# Altium footprint library SOD_SOT_SMx.PcbLib: 30 footprints (part 1 of 2)
Each footprint in its own frame and in the unit in brackets; x right, y up, seen from the top. Pads: shape width x height; smd on the part's side, far side on the other; paste and mask are expansions set on the pad; w line width, h text height; cw(c..) or ccw(c..) is an arc to the next point about the centre after c.
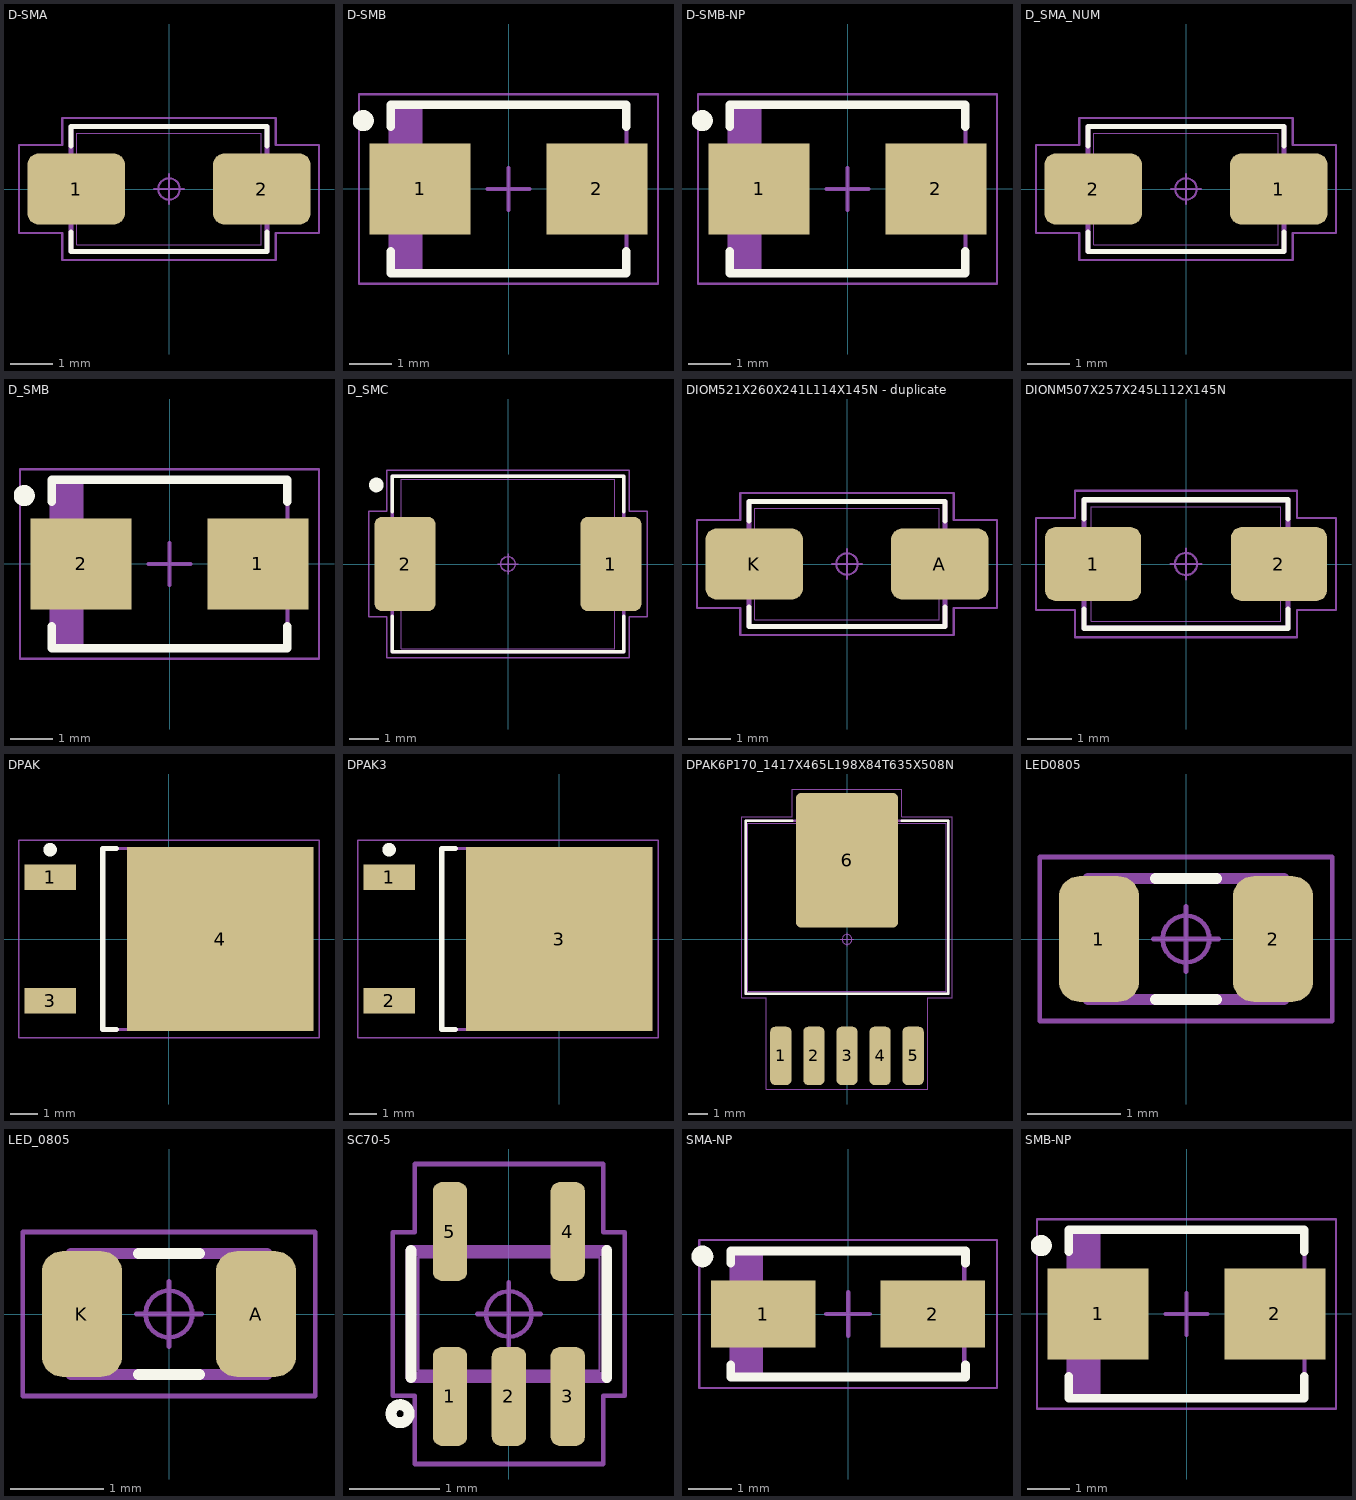
[diagram p0: the footprints below, top view; thin cyan lines are the x and y axes]

## D-SMA [mm] "Diode, Molded Body; 4.315 mm L X 2.605 mm W X 2.41 mm H body"
height 2.41
pads (2):
  rrect30% 2.27x1.65 smd: 1(-2.165,0) 2(2.165,0)
Top Overlay:
  lines w0.12: -2.29,-1.005 -2.29,-1.46 2.29,-1.46 2.29,-1.005 ; -2.29,1.005 -2.29,1.46 2.29,1.46 2.29,1.005
Mechanical 11:
  lines w0.12: -2.29,-1.46 2.29,-1.46 2.29,1.46 -2.29,1.46 -2.29,-1.46
Mechanical 12:
  lines w0.025: -2.605,-0.725 -2.605,0.725 -1.465,0.725 -1.465,-0.725 -2.605,-0.725 ; -2.157,-1.302 2.157,-1.302 2.157,1.302 -2.157,1.302 -2.157,-1.302 ; 1.465,-0.725 2.605,-0.725 2.605,0.725 1.465,0.725 1.465,-0.725
Mechanical 15:
  circle w0.05: c0,0 r0.25
  lines w0.05: -0.35,0 0.35,0 ; 0,-0.35 0,0.35 ; -3.5,-1.025 -2.49,-1.025 -2.49,-1.66 2.49,-1.66 2.49,-1.025 3.5,-1.025 3.5,1.025 2.49,1.025 2.49,1.66 -2.49,1.66 -2.49,1.025 -3.5,1.025 -3.5,-1.025
3D body "DIOM521X260X241L114X145.STEP": height 2.41, standoff 0, extent -2.605,-1.302 2.605,1.302

## D-SMB [mm] "Molded Diode, 2-Leads, Body 5,35x3,63mm, IPC Medium Density"
height 2.65
pads (2):
  rect 2.4x2.15 smd: 1(-2.1,0) 2(2.1,0)
Top Overlay:
  circle w0.25: c-3.45,1.625 r0.125
  lines w0.2: -2.8,-1.475 -2.8,-2 2.8,-2 2.8,-1.475 ; -2.8,1.475 -2.8,2 2.8,2 2.8,1.475
Mechanical 13:
  rectangle: -2.8,-1.975 -2.047,1.975
  lines w0.1: -2.8,-1.975 2.8,-1.975 2.8,1.975 -2.8,1.975 -2.8,-1.975
Mechanical 15:
  lines w0.05: -3.55,-2.25 3.55,-2.25 3.55,2.25 -3.55,2.25 -3.55,-2.25
  lines w0.1: -0.5,0 0.5,0 ; 0,-0.5 0,0.5
3D body "D_SMB.step": height 2.15, standoff 0, extent -2.65,-1.775 2.65,1.775

## D-SMB-NP [mm] "Molded Diode, 2-Leads, Body 5,35x3,63mm, IPC Medium Density"
height 2.65
pads (2):
  rect 2.4x2.15 smd: 1(-2.1,0) 2(2.1,0)
Top Overlay:
  circle w0.25: c-3.45,1.625 r0.125
  lines w0.2: -2.8,-1.475 -2.8,-2 2.8,-2 2.8,-1.475 ; -2.8,1.475 -2.8,2 2.8,2 2.8,1.475
Mechanical 13:
  rectangle: -2.8,-1.975 -2.047,1.975
  lines w0.1: -2.8,-1.975 2.8,-1.975 2.8,1.975 -2.8,1.975 -2.8,-1.975
Mechanical 15:
  lines w0.05: -3.55,-2.25 3.55,-2.25 3.55,2.25 -3.55,2.25 -3.55,-2.25
  lines w0.1: -0.5,0 0.5,0 ; 0,-0.5 0,0.5
3D body "DIOM5336X26N.step": height 2.65, standoff 0, extent -3.02,-1.975 3.02,1.975

## D_SMA_NUM [mm]
pads (2):
  rrect30% 2.27x1.65 smd: 1(2.165,0) 2(-2.165,0)
Top Overlay:
  lines w0.12: -2.29,-1.005 -2.29,-1.46 2.29,-1.46 2.29,-1.005 ; -2.29,1.005 -2.29,1.46 2.29,1.46 2.29,1.005
Mechanical 11:
  lines w0.12: -2.29,-1.46 2.29,-1.46 2.29,1.46 -2.29,1.46 -2.29,-1.46
Mechanical 12:
  lines w0.025: -2.605,-0.725 -2.605,0.725 -1.465,0.725 -1.465,-0.725 -2.605,-0.725 ; -2.157,-1.302 2.157,-1.302 2.157,1.302 -2.157,1.302 -2.157,-1.302 ; 1.465,-0.725 2.605,-0.725 2.605,0.725 1.465,0.725 1.465,-0.725
Mechanical 15:
  circle w0.05: c0,0 r0.25
  lines w0.05: -0.35,0 0.35,0 ; 0,-0.35 0,0.35 ; -3.5,-1.025 -2.49,-1.025 -2.49,-1.66 2.49,-1.66 2.49,-1.025 3.5,-1.025 3.5,1.025 2.49,1.025 2.49,1.66 -2.49,1.66 -2.49,1.025 -3.5,1.025 -3.5,-1.025
3D body "DIOM521X260X241L114X145.STEP": height 2.41, standoff 0, extent -2.605,-1.302 2.605,1.302

## D_SMB [mm] "Molded Diode, 2-Leads, Body 5,35x3,63mm, IPC Medium Density"
height 2.65
pads (2):
  rect 2.4x2.15 smd: 1(2.1,0) 2(-2.1,0)
Top Overlay:
  circle w0.25: c-3.45,1.625 r0.125
  lines w0.2: -2.8,-1.475 -2.8,-2 2.8,-2 2.8,-1.475 ; -2.8,1.475 -2.8,2 2.8,2 2.8,1.475
Mechanical 13:
  rectangle: -2.8,-1.975 -2.047,1.975
  lines w0.1: -2.8,-1.975 -2.8,1.975 2.8,1.975 2.8,-1.975 -2.8,-1.975
Mechanical 15:
  lines w0.05: -3.55,-2.25 -3.55,2.25 3.55,2.25 3.55,-2.25 -3.55,-2.25
  lines w0.1: -0.5,0 0.5,0 ; 0,-0.5 0,0.5
3D body "D_SMB.step": height 2.15, standoff 0, extent -2.65,-1.775 2.65,1.775

## D_SMC [mm] "Diode, Molded Body; 7.30 mm L X 5.80 mm W X 2.50 mm H body"
height 2.5
pads (2):
  rrect24% 2.09x3.22 smd: 1(3.515,0) 2(-3.515,0)
Top Overlay:
  circle w0.25: c-4.5,2.7 r0.125
  lines w0.12: -3.95,-1.79 -3.95,-3 3.95,-3 3.95,-1.79 ; -3.95,1.79 -3.95,3 3.95,3 3.95,1.79
Mechanical 11:
  lines w0.12: -3.95,-3 -3.95,3 3.95,3 3.95,-3 -3.95,-3
Mechanical 12:
  lines w0.025: -3.95,-1.5 -2.75,-1.5 -2.75,1.5 -3.95,1.5 -3.95,-1.5 ; -3.65,-2.9 -3.65,2.9 3.65,2.9 3.65,-2.9 -3.65,-2.9 ; 2.75,-1.5 2.75,1.5 3.95,1.5 3.95,-1.5 2.75,-1.5
Mechanical 15:
  circle w0.05: c0,0 r0.25
  lines w0.05: -0.35,0 0.35,0 ; 0,-0.35 0,0.35 ; -4.76,-1.81 -4.76,1.81 -4.15,1.81 -4.15,3.2 4.15,3.2 4.15,1.81 4.76,1.81 4.76,-1.81 4.15,-1.81 4.15,-3.2 -4.15,-3.2 -4.15,-1.81 -4.76,-1.81
Mechanical 16:
  text ".Designator" at 0,0 h1.2
3D body "D_SMC.step": height 2.31, standoff 0, extent -4,-2.95 4,2.95

## DIOM521X260X241L114X145N - duplicate [mm] "Diode, Molded Body; 4.315 mm L X 2.605 mm W X 2.41 mm H body"
height 2.41
pads (2):
  rrect30% 2.27x1.65 smd: A(2.165,0) K(-2.165,0)
Top Overlay:
  lines w0.12: -2.29,-1.005 -2.29,-1.46 2.29,-1.46 2.29,-1.005 ; -2.29,1.005 -2.29,1.46 2.29,1.46 2.29,1.005
Mechanical 11:
  lines w0.12: -2.29,-1.46 -2.29,1.46 2.29,1.46 2.29,-1.46 -2.29,-1.46
Mechanical 12:
  lines w0.025: -2.605,-0.725 -1.465,-0.725 -1.465,0.725 -2.605,0.725 -2.605,-0.725 ; -2.157,-1.302 -2.157,1.302 2.157,1.302 2.157,-1.302 -2.157,-1.302 ; 1.465,-0.725 1.465,0.725 2.605,0.725 2.605,-0.725 1.465,-0.725
Mechanical 15:
  circle w0.05: c0,0 r0.25
  lines w0.05: -0.35,0 0.35,0 ; 0,-0.35 0,0.35 ; -3.5,-1.025 -3.5,1.025 -2.49,1.025 -2.49,1.66 2.49,1.66 2.49,1.025 3.5,1.025 3.5,-1.025 2.49,-1.025 2.49,-1.66 -2.49,-1.66 -2.49,-1.025 -3.5,-1.025
3D body "DIOM521X260X241L114X145.STEP": height 2.41, standoff 0, extent -2.605,-1.302 2.605,1.302

## DIONM507X257X245L112X145N [mm] "Diode, Non-Polarized, Molded Body; 4.275 mm L X 2.575 mm W X 2.45 mm H body"
height 2.45
pads (2):
  rrect30% 2.17x1.67 smd: 1(-2.095,0) 2(2.095,0)
Top Overlay:
  lines w0.12: -2.3,-1.015 -2.3,-1.45 2.3,-1.45 2.3,-1.015 ; -2.3,1.015 -2.3,1.45 2.3,1.45 2.3,1.015
Mechanical 11:
  lines w0.12: -2.3,-1.45 -2.3,1.45 2.3,1.45 2.3,-1.45 -2.3,-1.45
Mechanical 12:
  lines w0.025: -2.538,-0.725 -1.412,-0.725 -1.412,0.725 -2.538,0.725 -2.538,-0.725 ; -2.137,-1.288 -2.137,1.288 2.137,1.288 2.137,-1.288 -2.137,-1.288 ; 1.412,-0.725 1.412,0.725 2.538,0.725 2.538,-0.725 1.412,-0.725
Mechanical 15:
  circle w0.05: c0,0 r0.25
  lines w0.05: -0.35,0 0.35,0 ; 0,-0.35 0,0.35 ; -3.38,-1.035 -3.38,1.035 -2.5,1.035 -2.5,1.65 2.5,1.65 2.5,1.035 3.38,1.035 3.38,-1.035 2.5,-1.035 2.5,-1.65 -2.5,-1.65 -2.5,-1.035 -3.38,-1.035
3D body "DIONM507X257X245L112X145.STEP": height 2.45, standoff 0, extent -2.538,-1.288 2.538,1.288

## DPAK [mm] "D-PAK, 3-Pads, Body 6,20x6,72mm (max), IPC Medium Density"
height 2.38
pads (3):
  rect 1.9x0.95 smd: 1(-4.4,2.28) 3(-4.4,-2.28)
  rect 6.9x6.8 smd: 4(1.9,0)
Top Overlay:
  circle w0.25: c-4.4,3.305 r0.125
  lines w0.2: -1.95,-3.35 -2.45,-3.35 -2.45,3.35 -1.95,3.35
Mechanical 13:
  lines w0.1: -2.45,-3.35 3.75,-3.35 3.75,3.35 -2.45,3.35 -2.45,-3.35
Mechanical 15:
  lines w0.05: -5.55,-3.65 5.55,-3.65 5.55,3.65 -5.55,3.65 -5.55,-3.65
  lines w0.1: -0.5,0 0.5,0 ; 0,-0.5 0,0.5
3D body: height 2.38, standoff 0, extent -2.45,-3.35 3.75,3.35

## DPAK3 [mm]
pads (3):
  rect 1.9x0.95 smd: 1(-6.305,2.28) 2(-6.305,-2.28)
  rect 6.9x6.8 smd: 3(-0.005,0)
Top Overlay:
  circle w0.25: c-6.305,3.305 r0.125
  lines w0.2: -3.855,-3.35 -4.355,-3.35 -4.355,3.35 -3.855,3.35
Mechanical 13:
  lines w0.1: -4.355,-3.35 1.845,-3.35 1.845,3.35 -4.355,3.35 -4.355,-3.35
Mechanical 15:
  lines w0.05: -7.455,-3.65 3.645,-3.65 3.645,3.65 -7.455,3.65 -7.455,-3.65
  lines w0.1: -2.405,0 -1.405,0 ; -1.905,-0.5 -1.905,0.5
3D body "TO-252-2.step": height 2.32, standoff 0, extent -6.95,-3.25 2.95,3.25

## DPAK6P170_1417X465L198X84T635X508N [mm] "DPAK, 1.70 mm pitch; 5 pin, 8.64 mm L X 10.225 mm W X 4.65 mm H body"
height 4.65
pads (6):
  rrect46% 1.09x3 smd: 1(-3.4,-5.99) 2(-1.7,-5.99) 3(0,-5.99) 4(1.7,-5.99) 5(3.4,-5.99)
  rrect10% 5.25x6.92 smd paste-6.92: 6(0,4.07)
Top Overlay:
  lines w0.12: -2.805,6.105 -5.21,6.105 -5.21,-2.795 5.21,-2.795 5.21,6.105 2.805,6.105
Top Paste:
  region: 2.185,0.83 0.435,0.83 0.435,2.12 2.185,2.12
  region: 2.185,2.56 0.435,2.56 0.435,3.85 2.185,3.85
  region: 2.185,4.29 0.435,4.29 0.435,5.58 2.185,5.58
  region: 2.185,6.02 0.435,6.02 0.435,7.31 2.185,7.31
  region: -0.435,0.83 -2.185,0.83 -2.185,2.12 -0.435,2.12
  region: -0.435,2.56 -2.185,2.56 -2.185,3.85 -0.435,3.85
  region: -0.435,4.29 -2.185,4.29 -2.185,5.58 -0.435,5.58
  region: -0.435,6.02 -2.185,6.02 -2.185,7.31 -0.435,7.31
Mechanical 11:
  lines w0.12: -5.21,-2.795 5.21,-2.795 5.21,6.105 -5.21,6.105 -5.21,-2.795
Mechanical 12:
  lines w0.025: -5.112,-2.665 -5.112,5.975 5.112,5.975 5.112,-2.665 -5.112,-2.665 ; -3.82,-7.087 -2.98,-7.087 -2.98,-5.108 -3.82,-5.108 -3.82,-7.087 ; -2.54,0.737 2.54,0.737 2.54,7.087 -2.54,7.087 -2.54,0.737 ; -2.12,-7.087 -1.28,-7.087 -1.28,-5.108 -2.12,-5.108 -2.12,-7.087 ; -0.42,-7.087 0.42,-7.087 0.42,-5.108 -0.42,-5.108 -0.42,-7.087 ; 1.28,-7.087 2.12,-7.087 2.12,-5.108 1.28,-5.108 1.28,-7.087 ; 2.98,-7.087 3.82,-7.087 3.82,-5.108 2.98,-5.108 2.98,-7.087
Mechanical 15:
  circle w0.05: c0,0 r0.25
  lines w0.05: -0.35,0 0.35,0 ; 0,-0.35 0,0.35 ; -5.41,-2.99 -5.41,6.3 -2.825,6.3 -2.825,7.73 2.825,7.73 2.825,6.3 5.41,6.3 5.41,-2.99 4.145,-2.99 4.145,-7.69 -4.145,-7.69 -4.145,-2.99 -5.41,-2.99
Mechanical 16:
  text ".Designator" at 0,0 h1.2
3D body "DPAK6P170_1417X465L198X84T635X508.STEP": height 4.65, standoff 0, extent -5.112,-7.087 5.112,7.087

## LED0805 [mm] "LED, Chip; 2.00 mm L X 1.25 mm W X 0.80 mm H body"
height 0.8
pads (2):
  rrect51% 0.86x1.35 smd: 1(-0.935,0) 2(0.935,0)
Top Overlay:
  lines w0.12: -0.325,-0.65 0.325,-0.65 ; -0.325,0.65 0.325,0.65
Mechanical 11:
  lines w0.12: -1.05,-0.65 1.05,-0.65 1.05,0.65 -1.05,0.65 -1.05,-0.65
Mechanical 12:
  lines w0.025: -1,-0.625 1,-0.625 ; -1,-0.625 -1,0.625 ; -1,-0.625 -1,0.625 ; -1,-0.625 -0.6,-0.625 -0.6,0.625 -1,0.625 ; -1,0.625 1,0.625 ; 1,-0.625 1,0.625 ; 1,-0.625 0.6,-0.625 0.6,0.625 1,0.625 ; 1,-0.625 1,0.625
Mechanical 15:
  circle w0.05: c0,0 r0.25
  lines w0.05: -0.35,0 0.35,0 ; 0,-0.35 0,0.35 ; -1.57,-0.88 1.57,-0.88 1.57,0.88 -1.57,0.88 -1.57,-0.88
3D body: height 0.25, standoff 0, extent -1,-0.625 1,0.625

## LED_0805 [mm] "LED, Chip; 2.00 mm L X 1.25 mm W X 0.80 mm H body"
height 0.8
pads (2):
  rrect51% 0.86x1.35 smd: A(0.935,0) K(-0.935,0)
Top Overlay:
  lines w0.12: -0.325,-0.65 0.325,-0.65 ; -0.325,0.65 0.325,0.65
Mechanical 11:
  lines w0.12: -1.05,-0.65 1.05,-0.65 1.05,0.65 -1.05,0.65 -1.05,-0.65
Mechanical 12:
  lines w0.025: -1,-0.625 1,-0.625 ; -1,-0.625 -1,0.625 ; -1,-0.625 -1,0.625 ; -1,-0.625 -0.6,-0.625 -0.6,0.625 -1,0.625 ; -1,0.625 1,0.625 ; 1,-0.625 1,0.625 ; 1,-0.625 0.6,-0.625 0.6,0.625 1,0.625 ; 1,-0.625 1,0.625
Mechanical 15:
  circle w0.05: c0,0 r0.25
  lines w0.05: -0.35,0 0.35,0 ; 0,-0.35 0,0.35 ; -1.57,-0.88 1.57,-0.88 1.57,0.88 -1.57,0.88 -1.57,-0.88
3D body: height 0.25, standoff 0, extent -1,-0.625 1,0.625

## SC70-5 [mm] "Small Outline Transistor (SOT23), 0.65 mm pitch; 5 pin, 2.00 mm L X 1.25 mm W X 1.10 mm H body"
height 1.1
pads (5):
  rrect53% 0.38x1.09 smd: 1(-0.65,-0.91) 2(0,-0.91) 3(0.65,-0.91) 4(0.65,0.91) 5(-0.65,0.91)
Top Overlay:
  circle w0.12: c-1.2,-1.1 r0.1
  lines w0.12: -1.08,-0.7 -1.08,0.7 ; 1.08,-0.7 1.08,0.7
Mechanical 11:
  lines w0.12: -1.08,-0.7 -1.08,0.7 1.08,0.7 1.08,-0.7 -1.08,-0.7
Mechanical 12:
  lines w0.025: -1,-0.625 -1,0.625 1,0.625 1,-0.625 -1,-0.625 ; -0.763,-1.05 -0.537,-1.05 -0.537,-0.69 -0.763,-0.69 -0.763,-1.05 ; -0.763,0.69 -0.537,0.69 -0.537,1.05 -0.763,1.05 -0.763,0.69 ; -0.112,-1.05 0.112,-1.05 0.112,-0.69 -0.112,-0.69 -0.112,-1.05 ; 0.537,-1.05 0.763,-1.05 0.763,-0.69 0.537,-0.69 0.537,-1.05 ; 0.537,0.69 0.763,0.69 0.763,1.05 0.537,1.05 0.537,0.69
Mechanical 15:
  circle w0.05: c0,0 r0.25
  lines w0.05: -0.35,0 0.35,0 ; 0,-0.35 0,0.35 ; -1.28,-0.9 -1.28,0.9 -1.04,0.9 -1.04,1.655 1.04,1.655 1.04,0.9 1.28,0.9 1.28,-0.9 1.04,-0.9 1.04,-1.655 -1.04,-1.655 -1.04,-0.9 -1.28,-0.9
3D body "SC70-5.STEP": height 1.1, standoff 0, extent -1,-1.05 1,1.05

## SMA-NP [mm] "Molded Diode, 2-Leads, Body 5,07x2,57mm, IPC Medium Density"
height 2.65
pads (2):
  rect 2.4x1.55 smd: 1(-1.95,0) 2(1.95,0)
Top Overlay:
  circle w0.25: c-3.35,1.325 r0.125
  lines w0.2: -2.7,-1.175 -2.7,-1.45 2.7,-1.45 2.7,-1.175 ; -2.7,1.175 -2.7,1.45 2.7,1.45 2.7,1.175
Mechanical 13:
  rectangle: -2.675,-1.45 -1.955,1.45
  lines w0.1: -2.675,-1.45 -2.675,1.45 2.675,1.45 2.675,-1.45 -2.675,-1.45
Mechanical 15:
  lines w0.05: -3.425,-1.7 -3.425,1.7 3.425,1.7 3.425,-1.7 -3.425,-1.7
  lines w0.1: -0.5,0 0.5,0 ; 0,-0.5 0,0.5
3D body: height 1.27, standoff 0, extent -2.54,-2.537 2.54,2.537

## SMB-NP [mm] "Molded Diode, 2-Leads, Body 5,35x3,63mm, IPC Medium Density"
height 2.65
pads (2):
  rect 2.4x2.15 smd: 1(-2.1,0) 2(2.1,0)
Top Overlay:
  circle w0.25: c-3.45,1.625 r0.125
  lines w0.2: -2.8,-1.475 -2.8,-2 2.8,-2 2.8,-1.475 ; -2.8,1.475 -2.8,2 2.8,2 2.8,1.475
Mechanical 13:
  rectangle: -2.8,-1.975 -2.047,1.975
  lines w0.1: -2.8,-1.975 2.8,-1.975 2.8,1.975 -2.8,1.975 -2.8,-1.975
Mechanical 15:
  lines w0.05: -3.55,-2.25 3.55,-2.25 3.55,2.25 -3.55,2.25 -3.55,-2.25
  lines w0.1: -0.5,0 0.5,0 ; 0,-0.5 0,0.5
3D body "DIOM5336X26N.step": height 2.65, standoff 0, extent -3.02,-1.975 3.02,1.975